# Altium footprint library Potenciometro5K.PcbLib: 4 footprints
Each footprint in its own frame and in the unit in brackets; x right, y up, seen from the top. Pads: shape width x height; smd on the part's side, far side on the other; paste and mask are expansions set on the pad; w line width, h text height; cw(c..) or ccw(c..) is an arc to the next point about the centre after c.
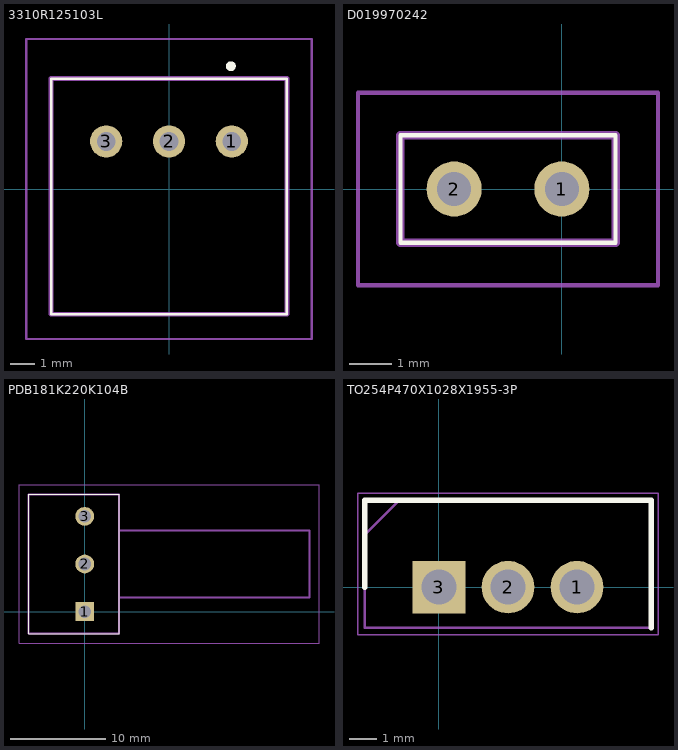
[diagram p0: the footprints below, top view; thin cyan lines are the x and y axes]

## 3310R125103L [mm]
pads (3):
  round 1.303 hole 0.76: 1(2.54,1.925) 2(0,1.925) 3(-2.54,1.925)
Top Overlay:
  lines w0.1: -4.765,-5.065 -4.765,4.465 4.765,4.465 4.765,-5.065 -4.765,-5.065
  lines w0.2: 2.4,4.965 ccw(c2.5,4.965) 2.6,4.965 ccw(c2.5,4.965) 2.4,4.965
Mechanical 13:
  lines w0.2: -4.765,-5.065 -4.765,4.465 4.765,4.465 4.765,-5.065 -4.765,-5.065
Mechanical 15:
  lines w0.1: -5.765,-6.065 -5.765,6.065 5.765,6.065 5.765,-6.065 -5.765,-6.065
3D body "3310R-101-103L.stp": height 20.93, standoff -2.25, extent -4.699,-5.017 4.826,4.508

## D019970242 [mm]
pads (2):
  round 1.3 hole 0.8: 1(0,0) 2(-2.54,0)
Top Overlay:
  lines w0.1: -3.81,-1.27 1.27,-1.27 1.27,1.27 -3.81,1.27 -3.81,-1.27
Mechanical 15:
  lines w0.2: -3.81,-1.27 1.27,-1.27 1.27,1.27 -3.81,1.27 -3.81,-1.27
Mechanical 20:
  lines w0.1: -4.81,-2.27 2.27,-2.27 2.27,2.27 -4.81,2.27 -4.81,-2.27
3D body "D01-9970242.stp": height 4.22, standoff -3.15, extent -3.81,-1.27 1.27,1.27

## PDB181K220K104B [mm]
pads (3):
  rect 1.98x1.98 hole 1.32: 1(0,0)
  round 1.98 hole 1.32: 2(0,5) 3(0,10)
Top Overlay:
  lines w0.1: -5.9,-2.3 -5.9,12.3 -1.4,12.3 3.6,12.3 3.6,-2.3 -1.4,-2.3 -5.9,-2.3
Mechanical 13:
  lines w0.2: 3.6,1.5 23.6,1.5 23.6,8.5 3.6,8.5 ; -5.9,-2.3 3.6,-2.3 3.6,12.3 -5.9,12.3 -5.9,-2.3
Mechanical 15:
  lines w0.1: -6.9,-3.3 24.6,-3.3 24.6,13.3 -6.9,13.3 -6.9,-3.3
3D body "PDB181-K420K-502B.stp": height 21.2, standoff -3.8, extent -5.58,-3.5 18.92,13.494

## TO254P470X1028X1955-3P [mm]
pads (3):
  round 1.935 hole 1.29: 1(5.08,0) 2(2.54,0)
  rect 1.935x1.935 hole 1.29: 3(0,0)
Top Overlay:
  lines w0.2: -2.73,0 -2.73,3.2 7.81,3.2 7.81,-1.5
Mechanical 13:
  lines w0.1: -2.73,1.93 -1.46,3.2 ; -2.73,-1.5 -2.73,3.2 7.81,3.2 7.81,-1.5 -2.73,-1.5
Mechanical 15:
  lines w0.05: -2.98,-1.75 -2.98,3.45 8.06,3.45 8.06,-1.75 -2.98,-1.75
3D body "TO-220-3 Bend Mirror.stp": height 4.41, standoff -3, extent -3.429,-0.27 8.455,19.574